# Altium schematic symbol library MPU-6050_Main_SCH_Lib.SCHLIB: 2 symbols
Pins are listed as number, name and electrical type; pins without a type are passive.

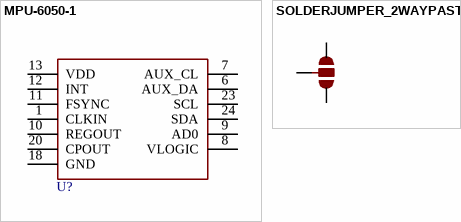
[diagram p0: symbols MPU-6050-1 to SOLDERJUMPER_2WAYPASTE2&3]

## MPU-6050-1
designator U?
footprint QFN-24-4MM2
pins: 1 CLKIN, 6 AUX_DA, 7 AUX_CL, 8 VLOGIC, 9 AD0, 10 REGOUT, 11 FSYNC, 12 INT, 13 VDD, 18 GND, 20 CPOUT, 23 SCL, 24 SDA

## SOLDERJUMPER_2WAYPASTE2&3
designator SJ?  (value not drawn)
footprint SJ_3_PASTE2&3
pins: 1, 2, 3